# Altium integrated library CRCW08051M00FKEA.IntLib: 1 symbol
Pins are listed as number, name and electrical type; pins without a type are passive.

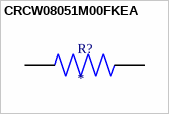
[diagram p0: symbol CRCW08051M00FKEA]

## CRCW08051M00FKEA
designator R?
Resistor;Thick Film;1 Megohms;0.125 W;1%;SMT;0805;TCR 37 ppm/DegC;Tape and Reel | Vishay Dale CRCW08051M00FKEA; SnapEDA_Link: https://www.snapeda.com/parts/CRCW08051M00FKEA/Vishay+Dale/view-part/?ref=snap; Package: 2012 Vishay; Value: *; MF: Vishay Dale; MP: CRCW08051M00FKEA; Check_prices: https://www.snapeda.com/parts/CRCW08051M00FKEA/Vishay+Dale/view-part/?ref=eda
footprint RESC2012X50N
pins: 1, 2